# Altium footprint library WR-TBL_Rising Cage Clamp_7.62mm.PcbLib: 34 footprints (part 2 of 3)
Each footprint in its own frame and in the unit in brackets; x right, y up, seen from the top. Pads: shape width x height; smd on the part's side, far side on the other; paste and mask are expansions set on the pad; w line width, h text height; cw(c..) or ccw(c..) is an arc to the next point about the centre after c.
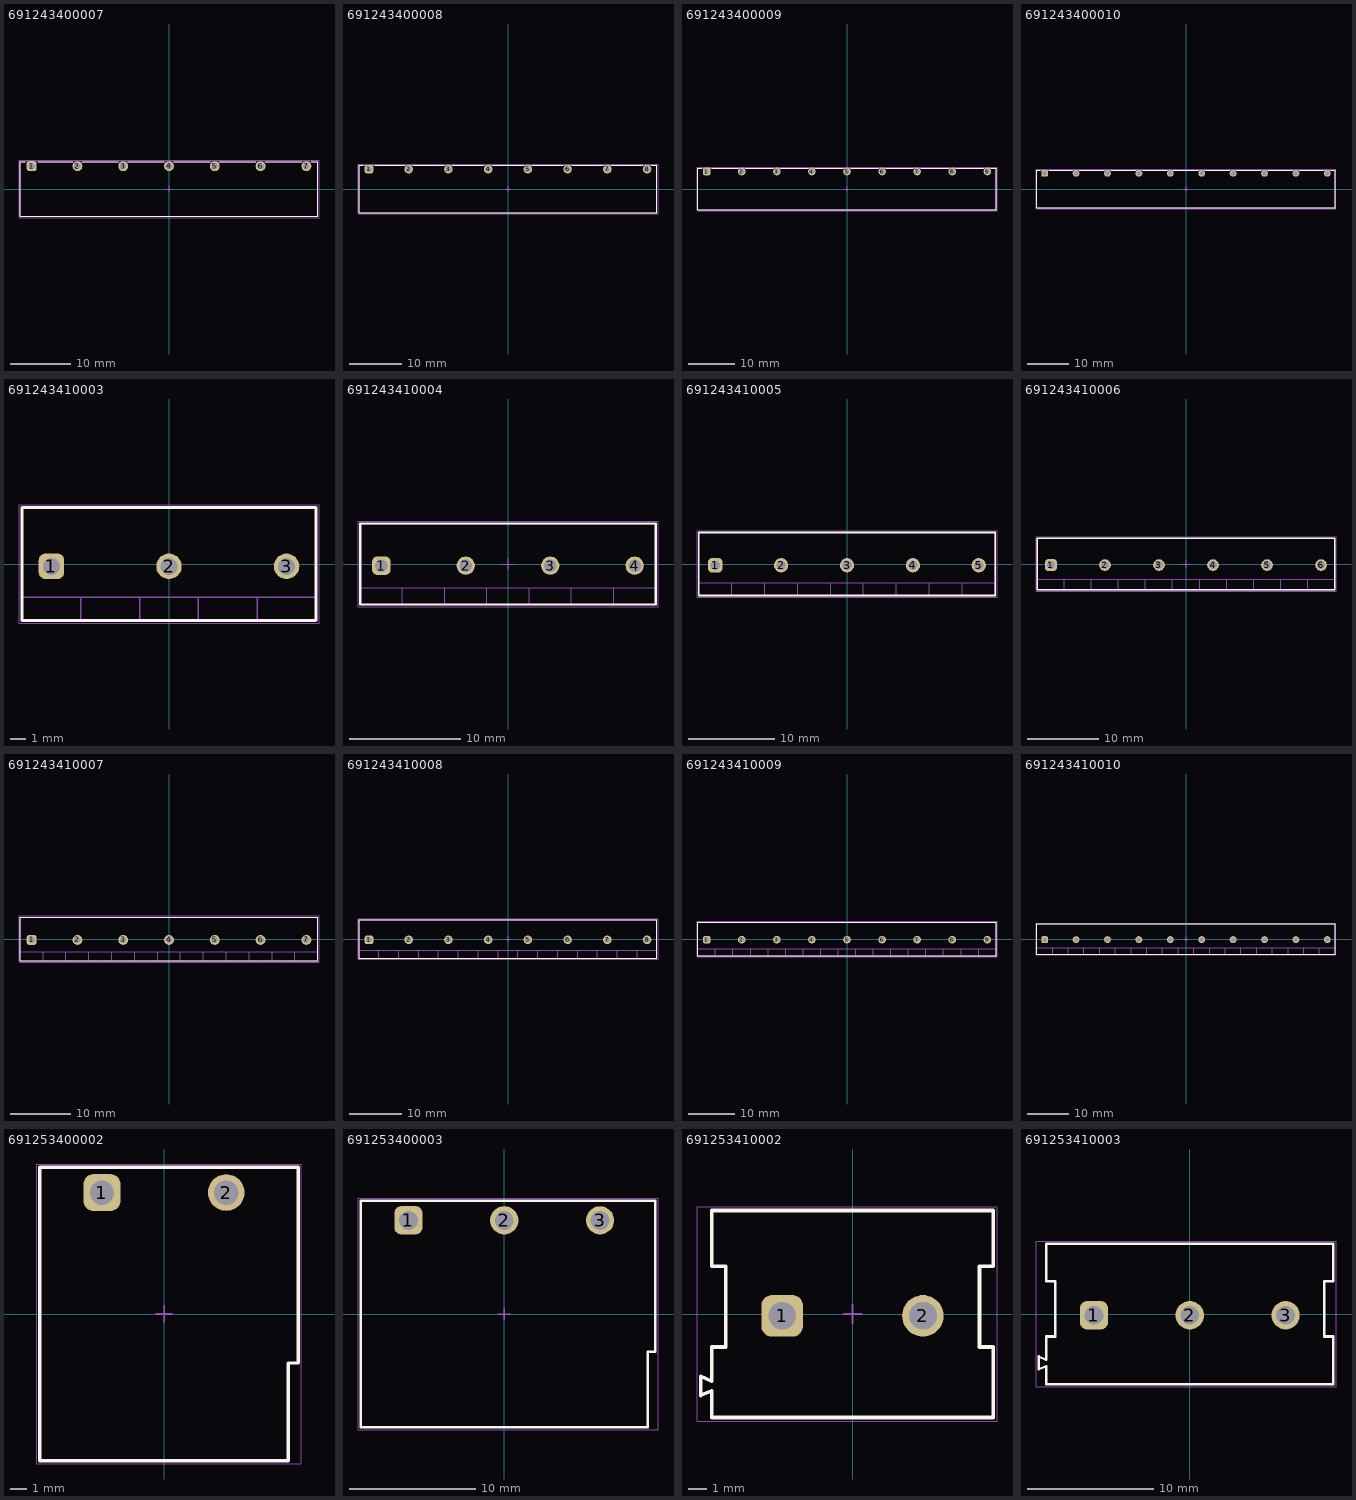
[diagram p1: the footprints below, top view; thin cyan lines are the x and y axes]

## 691243400007 [mm] "Serie 2434 - 7.62 mm _ 7 pins"
height 7.3
pads (7):
  rrect50% 1.65x1.65 hole 1.1: 1(-22.86,3.8)
  round 1.65 hole 1.1: 2(-15.24,3.8) 3(-7.62,3.8) 4(0,3.8) 5(7.62,3.8) 6(15.24,3.8) 7(22.86,3.8)
Top Overlay:
  lines w0.2: -23.965,4.55 -24.765,4.55 -24.765,-4.55 24.765,-4.55 24.765,4.55 23.655,4.55 ; -21.755,4.55 -16.015,4.55 ; -14.465,4.55 -8.415,4.55 ; -6.845,4.55 -0.795,4.55 ; 0.775,4.55 6.825,4.55 ; 8.395,4.55 14.445,4.55 ; 16.015,4.55 22.065,4.55
Top Assembly:
  lines w0.1: -24.765,-4.55 -24.765,4.55 24.765,4.55 24.765,-4.55 -24.765,-4.55
Top Designator:
  text ".Designator" at -3.647,-0.357 h1
Top 3D Body:
  lines w0.1: -24.765,-4.55 24.765,-4.55 24.765,4.55 -24.765,4.55 -24.765,-4.55
Top Courtyard:
  lines w0.05: -24.965,-4.75 24.965,-4.75 24.965,4.75 -24.965,4.75 -24.965,-4.75
Top Component Center:
  lines w0.1: -0.5,0 0.5,0 ; 0,-0.5 0,0.5
3D body "691243400007.stp": height 7.35, standoff -3.45, extent -24.765,-4.55 24.765,4.55

## 691243400008 [mm] "Serie 2434 - 7.62 mm _ 8 pins"
height 7.3
pads (8):
  rrect50% 1.65x1.65 hole 1.1: 1(-26.67,3.8)
  round 1.65 hole 1.1: 2(-19.05,3.8) 3(-11.43,3.8) 4(-3.81,3.8) 5(3.81,3.8) 6(11.43,3.8) 7(19.05,3.8) 8(26.67,3.8)
Top Overlay:
  lines w0.2: -27.775,4.55 -28.575,4.55 -28.575,-4.55 28.575,-4.55 28.575,4.55 27.465,4.55 ; -25.565,4.55 -19.825,4.55 ; -18.275,4.55 -12.225,4.55 ; -10.655,4.55 -4.605,4.55 ; -3.035,4.55 3.015,4.55 ; 4.585,4.55 10.635,4.55 ; 12.205,4.55 18.255,4.55 ; 19.825,4.55 25.875,4.55
Top Assembly:
  lines w0.1: -28.575,-4.55 28.575,-4.55 28.575,4.55 -28.575,4.55 -28.575,-4.55
Top Designator:
  text ".Designator" at -3.647,-0.357 h1
Top 3D Body:
  lines w0.1: -28.575,-4.55 -28.575,4.55 28.575,4.55 28.575,-4.55 -28.575,-4.55
Top Courtyard:
  lines w0.05: -28.775,-4.75 -28.775,4.75 28.775,4.75 28.775,-4.75 -28.775,-4.75
Top Component Center:
  lines w0.1: -0.5,0 0.5,0 ; 0,-0.5 0,0.5
3D body "691243400008.stp": height 7.35, standoff -3.45, extent -28.575,-4.55 28.575,4.55

## 691243400009 [mm] "Serie 2434 - 7.62 mm _ 9 pins"
height 7.3
pads (9):
  rrect50% 1.65x1.65 hole 1.1: 1(-30.48,3.8)
  round 1.65 hole 1.1: 2(-22.86,3.8) 3(-15.24,3.8) 4(-7.62,3.8) 5(0,3.8) 6(7.62,3.8) 7(15.24,3.8) 8(22.86,3.8) 9(30.48,3.8)
Top Overlay:
  lines w0.2: -31.585,4.55 -32.385,4.55 -32.385,-4.55 32.385,-4.55 32.385,4.55 31.275,4.55 ; -29.375,4.55 -23.635,4.55 ; -22.085,4.55 -16.035,4.55 ; -14.465,4.55 -8.415,4.55 ; -6.845,4.55 -0.795,4.55 ; 0.775,4.55 6.825,4.55 ; 8.395,4.55 14.445,4.55 ; 16.015,4.55 22.065,4.55 ; 23.635,4.55 29.685,4.55
Top Assembly:
  lines w0.1: -32.385,-4.55 32.385,-4.55 32.385,4.55 -32.385,4.55 -32.385,-4.55
Top Designator:
  text ".Designator" at -3.647,-0.357 h1
Top 3D Body:
  lines w0.1: -32.385,-4.55 -32.385,4.55 32.385,4.55 32.385,-4.55 -32.385,-4.55
Top Courtyard:
  lines w0.05: -32.585,-4.75 -32.585,4.75 32.585,4.75 32.585,-4.75 -32.585,-4.75
Top Component Center:
  lines w0.1: -0.5,0 0.5,0 ; 0,-0.5 0,0.5
3D body "691243400009.stp": height 7.35, standoff -3.45, extent -32.385,-4.55 32.385,4.55

## 691243400010 [mm] "Serie 2434 - 7.62 mm _ 10 pins"
height 7.3
pads (10):
  rrect50% 1.65x1.65 hole 1.1: 1(-34.29,3.8)
  round 1.65 hole 1.1: 2(-26.67,3.8) 3(-19.05,3.8) 4(-11.43,3.8) 5(-3.81,3.8) 6(3.81,3.8) 7(11.43,3.8) 8(19.05,3.8) 9(26.67,3.8) 10(34.29,3.8)
Top Overlay:
  lines w0.2: -35.395,4.55 -36.195,4.55 -36.195,-4.55 36.195,-4.55 36.195,4.55 35.085,4.55 ; -33.185,4.55 -27.445,4.55 ; -25.895,4.55 -19.845,4.55 ; -18.275,4.55 -12.225,4.55 ; -10.655,4.55 -4.605,4.55 ; -3.035,4.55 3.015,4.55 ; 4.585,4.55 10.635,4.55 ; 12.205,4.55 18.255,4.55 ; 19.825,4.55 25.875,4.55 ; 27.445,4.55 33.495,4.55
Top Assembly:
  lines w0.1: -36.195,-4.55 -36.195,4.55 36.195,4.55 36.195,-4.55 -36.195,-4.55
Top Designator:
  text ".Designator" at -3.647,-0.357 h1
Top 3D Body:
  lines w0.1: -36.195,-4.55 36.195,-4.55 36.195,4.55 -36.195,4.55 -36.195,-4.55
Top Courtyard:
  lines w0.05: -36.395,-4.75 36.395,-4.75 36.395,4.75 -36.395,4.75 -36.395,-4.75
Top Component Center:
  lines w0.1: -0.5,0 0.5,0 ; 0,-0.5 0,0.5
3D body "691243400010.stp": height 7.35, standoff -3.45, extent -36.195,-4.55 36.195,4.55

## 691243410003 [mm] "Serie 2434 - 7.62 mm _ 3 pins"
height 9.1
pads (3):
  rrect50% 1.65x1.65 hole 1.1: 1(-7.62,-0.15)
  round 1.65 hole 1.1: 2(0,-0.15) 3(7.62,-0.15)
Top Overlay:
  lines w0.2: -9.525,-3.65 9.525,-3.65 9.525,3.65 -9.525,3.65 -9.525,-3.65
Top Assembly:
  lines w0.1: -9.525,-2.15 9.525,-2.15 ; -5.715,-3.65 -5.715,-2.15 ; -1.905,-3.65 -1.905,-2.15 ; 1.905,-3.65 1.905,-2.15 ; 5.715,-3.65 5.715,-2.15 ; -9.525,-3.65 -9.525,3.65 9.525,3.65 9.525,-3.65 -9.525,-3.65
Top Designator:
  text ".Designator" at -3.647,-0.357 h1
Top 3D Body:
  lines w0.1: -9.525,-2.15 9.525,-2.15 ; -5.715,-3.65 -5.715,-2.15 ; -1.905,-3.65 -1.905,-2.15 ; 1.905,-3.65 1.905,-2.15 ; 5.715,-3.65 5.715,-2.15 ; -9.525,-3.65 9.525,-3.65 9.525,3.65 -9.525,3.65 -9.525,-3.65
Top Courtyard:
  lines w0.05: -9.725,-3.85 9.725,-3.85 9.725,3.85 -9.725,3.85 -9.725,-3.85
Top Component Center:
  lines w0.1: -0.5,0 0.5,0 ; 0,-0.5 0,0.5
3D body "691243410003.stp": height 9.15, standoff -3.45, extent -9.525,-3.65 9.525,3.65

## 691243410004 [mm] "Serie 2434 - 7.62 mm _ 4 pins"
height 9.1
pads (4):
  rrect50% 1.65x1.65 hole 1.1: 1(-11.43,-0.15)
  round 1.65 hole 1.1: 2(-3.81,-0.15) 3(3.81,-0.15) 4(11.43,-0.15)
Top Overlay:
  lines w0.2: -13.335,-3.65 -13.335,3.65 13.335,3.65 13.335,-3.65 -13.335,-3.65
Top Assembly:
  lines w0.1: -13.335,-2.15 13.335,-2.15 ; -9.525,-3.65 -9.525,-2.15 ; -5.715,-3.65 -5.715,-2.15 ; -1.905,-3.65 -1.905,-2.15 ; 1.905,-3.65 1.905,-2.15 ; 5.715,-3.65 5.715,-2.15 ; 9.525,-3.65 9.525,-2.15 ; -13.335,-3.65 13.335,-3.65 13.335,3.65 -13.335,3.65 -13.335,-3.65
Top Designator:
  text ".Designator" at -3.647,-0.357 h1
Top 3D Body:
  lines w0.1: -13.335,-2.15 13.335,-2.15 ; -9.525,-3.65 -9.525,-2.15 ; -5.715,-3.65 -5.715,-2.15 ; -1.905,-3.65 -1.905,-2.15 ; 1.905,-3.65 1.905,-2.15 ; 5.715,-3.65 5.715,-2.15 ; 9.525,-3.65 9.525,-2.15 ; -13.335,-3.65 -13.335,3.65 13.335,3.65 13.335,-3.65 -13.335,-3.65
Top Courtyard:
  lines w0.05: -13.535,-3.85 -13.535,3.85 13.535,3.85 13.535,-3.85 -13.535,-3.85
Top Component Center:
  lines w0.1: -0.5,0 0.5,0 ; 0,-0.5 0,0.5
3D body "691243410004.stp": height 9.15, standoff -3.45, extent -13.335,-3.65 13.335,3.65

## 691243410005 [mm] "Serie 2434 - 7.62 mm _ 5 pins"
height 9.1
pads (5):
  rrect50% 1.65x1.65 hole 1.1: 1(-15.24,-0.15)
  round 1.65 hole 1.1: 2(-7.62,-0.15) 3(0,-0.15) 4(7.62,-0.15) 5(15.24,-0.15)
Top Overlay:
  lines w0.2: -17.145,-3.65 -17.145,3.65 17.145,3.65 17.145,-3.65 -17.145,-3.65
Top Assembly:
  lines w0.1: -17.145,-2.15 17.145,-2.15 ; -13.335,-3.65 -13.335,-2.15 ; -9.525,-3.65 -9.525,-2.15 ; -5.715,-3.65 -5.715,-2.15 ; -1.905,-3.65 -1.905,-2.15 ; 1.905,-3.65 1.905,-2.15 ; 5.715,-3.65 5.715,-2.15 ; 9.525,-3.65 9.525,-2.15 ; 13.335,-3.65 13.335,-2.15 ; -17.145,-3.65 17.145,-3.65 17.145,3.65 -17.145,3.65 -17.145,-3.65
Top Designator:
  text ".Designator" at -3.647,-0.357 h1
Top 3D Body:
  lines w0.1: -17.145,-2.15 17.145,-2.15 ; -13.335,-3.65 -13.335,-2.15 ; -9.525,-3.65 -9.525,-2.15 ; -5.715,-3.65 -5.715,-2.15 ; -1.905,-3.65 -1.905,-2.15 ; 1.905,-3.65 1.905,-2.15 ; 5.715,-3.65 5.715,-2.15 ; 9.525,-3.65 9.525,-2.15 ; 13.335,-3.65 13.335,-2.15 ; -17.145,-3.65 -17.145,3.65 17.145,3.65 17.145,-3.65 -17.145,-3.65
Top Courtyard:
  lines w0.05: -17.345,-3.85 -17.345,3.85 17.345,3.85 17.345,-3.85 -17.345,-3.85
Top Component Center:
  lines w0.1: -0.5,0 0.5,0 ; 0,-0.5 0,0.5
3D body "691243410005.stp": height 9.15, standoff -3.45, extent -17.145,-3.65 17.145,3.65

## 691243410006 [mm] "Serie 2434 - 7.62 mm _ 6 pins"
height 9.1
pads (6):
  rrect50% 1.65x1.65 hole 1.1: 1(-19.05,-0.15)
  round 1.65 hole 1.1: 2(-11.43,-0.15) 3(-3.81,-0.15) 4(3.81,-0.15) 5(11.43,-0.15) 6(19.05,-0.15)
Top Overlay:
  lines w0.2: -20.955,-3.65 -20.955,3.65 20.955,3.65 20.955,-3.65 -20.955,-3.65
Top Assembly:
  lines w0.1: -20.955,-2.15 20.955,-2.15 ; -17.145,-3.65 -17.145,-2.15 ; -13.335,-3.65 -13.335,-2.15 ; -9.525,-3.65 -9.525,-2.15 ; -5.715,-3.65 -5.715,-2.15 ; -1.905,-3.65 -1.905,-2.15 ; 1.905,-3.65 1.905,-2.15 ; 5.715,-3.65 5.715,-2.15 ; 9.525,-3.65 9.525,-2.15 ; 13.335,-3.65 13.335,-2.15 ; 17.145,-3.65 17.145,-2.15 ; -20.955,-3.65 20.955,-3.65 20.955,3.65 -20.955,3.65 -20.955,-3.65
Top Designator:
  text ".Designator" at -3.647,-0.357 h1
Top 3D Body:
  lines w0.1: -20.955,-2.15 20.955,-2.15 ; -17.145,-3.65 -17.145,-2.15 ; -13.335,-3.65 -13.335,-2.15 ; -9.525,-3.65 -9.525,-2.15 ; -5.715,-3.65 -5.715,-2.15 ; -1.905,-3.65 -1.905,-2.15 ; 1.905,-3.65 1.905,-2.15 ; 5.715,-3.65 5.715,-2.15 ; 9.525,-3.65 9.525,-2.15 ; 13.335,-3.65 13.335,-2.15 ; 17.145,-3.65 17.145,-2.15 ; -20.955,-3.65 -20.955,3.65 20.955,3.65 20.955,-3.65 -20.955,-3.65
Top Courtyard:
  lines w0.05: -21.155,-3.85 -21.155,3.85 21.155,3.85 21.155,-3.85 -21.155,-3.85
Top Component Center:
  lines w0.1: -0.5,0 0.5,0 ; 0,-0.5 0,0.5
3D body "691243410006.stp": height 9.15, standoff -3.45, extent -20.955,-3.65 20.955,3.65

## 691243410007 [mm] "Serie 2434 - 7.62 mm _ 7 pins"
height 9.1
pads (7):
  rrect50% 1.65x1.65 hole 1.1: 1(-22.86,-0.15)
  round 1.65 hole 1.1: 2(-15.24,-0.15) 3(-7.62,-0.15) 4(0,-0.15) 5(7.62,-0.15) 6(15.24,-0.15) 7(22.86,-0.15)
Top Overlay:
  lines w0.2: -24.765,-3.65 24.765,-3.65 24.765,3.65 -24.765,3.65 -24.765,-3.65
Top Assembly:
  lines w0.1: -24.765,-2.15 24.765,-2.15 ; -20.955,-3.65 -20.955,-2.15 ; -17.145,-3.65 -17.145,-2.15 ; -13.335,-3.65 -13.335,-2.15 ; -9.525,-3.65 -9.525,-2.15 ; -5.715,-3.65 -5.715,-2.15 ; -1.905,-3.65 -1.905,-2.15 ; 1.905,-3.65 1.905,-2.15 ; 5.715,-3.65 5.715,-2.15 ; 9.525,-3.65 9.525,-2.15 ; 13.335,-3.65 13.335,-2.15 ; 17.145,-3.65 17.145,-2.15 ; 20.955,-3.65 20.955,-2.15 ; -24.765,-3.65 -24.765,3.65 24.765,3.65 24.765,-3.65 -24.765,-3.65
Top Designator:
  text ".Designator" at -3.647,-0.357 h1
Top 3D Body:
  lines w0.1: -24.765,-2.15 24.765,-2.15 ; -20.955,-3.65 -20.955,-2.15 ; -17.145,-3.65 -17.145,-2.15 ; -13.335,-3.65 -13.335,-2.15 ; -9.525,-3.65 -9.525,-2.15 ; -5.715,-3.65 -5.715,-2.15 ; -1.905,-3.65 -1.905,-2.15 ; 1.905,-3.65 1.905,-2.15 ; 5.715,-3.65 5.715,-2.15 ; 9.525,-3.65 9.525,-2.15 ; 13.335,-3.65 13.335,-2.15 ; 17.145,-3.65 17.145,-2.15 ; 20.955,-3.65 20.955,-2.15 ; -24.765,-3.65 24.765,-3.65 24.765,3.65 -24.765,3.65 -24.765,-3.65
Top Courtyard:
  lines w0.05: -24.965,-3.85 24.965,-3.85 24.965,3.85 -24.965,3.85 -24.965,-3.85
Top Component Center:
  lines w0.1: -0.5,0 0.5,0 ; 0,-0.5 0,0.5
3D body "691243410007.stp": height 9.15, standoff -3.45, extent -24.765,-3.65 24.765,3.65

## 691243410008 [mm] "Serie 2434 - 7.62 mm _ 8 pins"
height 9.1
pads (8):
  rrect50% 1.65x1.65 hole 1.1: 1(-26.67,-0.15)
  round 1.65 hole 1.1: 2(-19.05,-0.15) 3(-11.43,-0.15) 4(-3.81,-0.15) 5(3.81,-0.15) 6(11.43,-0.15) 7(19.05,-0.15) 8(26.67,-0.15)
Top Overlay:
  lines w0.2: -28.575,-3.65 -28.575,3.65 28.575,3.65 28.575,-3.65 -28.575,-3.65
Top Assembly:
  lines w0.1: -28.575,-2.15 28.575,-2.15 ; -24.765,-3.65 -24.765,-2.15 ; -20.955,-3.65 -20.955,-2.15 ; -17.145,-3.65 -17.145,-2.15 ; -13.335,-3.65 -13.335,-2.15 ; -9.525,-3.65 -9.525,-2.15 ; -5.715,-3.65 -5.715,-2.15 ; -1.905,-3.65 -1.905,-2.15 ; 1.905,-3.65 1.905,-2.15 ; 5.715,-3.65 5.715,-2.15 ; 9.525,-3.65 9.525,-2.15 ; 13.335,-3.65 13.335,-2.15 ; 17.145,-3.65 17.145,-2.15 ; 20.955,-3.65 20.955,-2.15 ; 24.765,-3.65 24.765,-2.15 ; -28.575,-3.65 28.575,-3.65 28.575,3.65 -28.575,3.65 -28.575,-3.65
Top Designator:
  text ".Designator" at -3.647,-0.357 h1
Top 3D Body:
  lines w0.1: -28.575,-2.15 28.575,-2.15 ; -24.765,-3.65 -24.765,-2.15 ; -20.955,-3.65 -20.955,-2.15 ; -17.145,-3.65 -17.145,-2.15 ; -13.335,-3.65 -13.335,-2.15 ; -9.525,-3.65 -9.525,-2.15 ; -5.715,-3.65 -5.715,-2.15 ; -1.905,-3.65 -1.905,-2.15 ; 1.905,-3.65 1.905,-2.15 ; 5.715,-3.65 5.715,-2.15 ; 9.525,-3.65 9.525,-2.15 ; 13.335,-3.65 13.335,-2.15 ; 17.145,-3.65 17.145,-2.15 ; 20.955,-3.65 20.955,-2.15 ; 24.765,-3.65 24.765,-2.15 ; -28.575,-3.65 -28.575,3.65 28.575,3.65 28.575,-3.65 -28.575,-3.65
Top Courtyard:
  lines w0.05: -28.775,-3.85 -28.775,3.85 28.775,3.85 28.775,-3.85 -28.775,-3.85
Top Component Center:
  lines w0.1: -0.5,0 0.5,0 ; 0,-0.5 0,0.5
3D body "691243410008.stp": height 9.15, standoff -3.45, extent -28.575,-3.65 28.575,3.65

## 691243410009 [mm] "Serie 2434 - 7.62 mm _ 9 pins"
height 9.1
pads (9):
  rrect50% 1.65x1.65 hole 1.1: 1(-30.48,-0.15)
  round 1.65 hole 1.1: 2(-22.86,-0.15) 3(-15.24,-0.15) 4(-7.62,-0.15) 5(0,-0.15) 6(7.62,-0.15) 7(15.24,-0.15) 8(22.86,-0.15) 9(30.48,-0.15)
Top Overlay:
  lines w0.2: -32.385,-3.65 32.385,-3.65 32.385,3.65 -32.385,3.65 -32.385,-3.65
Top Assembly:
  lines w0.1: -32.385,-2.15 32.385,-2.15 ; -28.575,-3.65 -28.575,-2.15 ; -24.765,-3.65 -24.765,-2.15 ; -20.955,-3.65 -20.955,-2.15 ; -17.145,-3.65 -17.145,-2.15 ; -13.335,-3.65 -13.335,-2.15 ; -9.525,-3.65 -9.525,-2.15 ; -5.715,-3.65 -5.715,-2.15 ; -1.905,-3.65 -1.905,-2.15 ; 1.905,-3.65 1.905,-2.15 ; 5.715,-3.65 5.715,-2.15 ; 9.525,-3.65 9.525,-2.15 ; 13.335,-3.65 13.335,-2.15 ; 17.145,-3.65 17.145,-2.15 ; 20.955,-3.65 20.955,-2.15 ; 24.765,-3.65 24.765,-2.15 ; 28.575,-3.65 28.575,-2.15 ; -32.385,-3.65 -32.385,3.65 32.385,3.65 32.385,-3.65 -32.385,-3.65
Top Designator:
  text ".Designator" at -3.647,-0.357 h1
Top 3D Body:
  lines w0.1: -32.385,-2.15 32.385,-2.15 ; -28.575,-3.65 -28.575,-2.15 ; -24.765,-3.65 -24.765,-2.15 ; -20.955,-3.65 -20.955,-2.15 ; -17.145,-3.65 -17.145,-2.15 ; -13.335,-3.65 -13.335,-2.15 ; -9.525,-3.65 -9.525,-2.15 ; -5.715,-3.65 -5.715,-2.15 ; -1.905,-3.65 -1.905,-2.15 ; 1.905,-3.65 1.905,-2.15 ; 5.715,-3.65 5.715,-2.15 ; 9.525,-3.65 9.525,-2.15 ; 13.335,-3.65 13.335,-2.15 ; 17.145,-3.65 17.145,-2.15 ; 20.955,-3.65 20.955,-2.15 ; 24.765,-3.65 24.765,-2.15 ; 28.575,-3.65 28.575,-2.15 ; -32.385,-3.65 32.385,-3.65 32.385,3.65 -32.385,3.65 -32.385,-3.65
Top Courtyard:
  lines w0.05: -32.585,-3.85 32.585,-3.85 32.585,3.85 -32.585,3.85 -32.585,-3.85
Top Component Center:
  lines w0.1: -0.5,0 0.5,0 ; 0,-0.5 0,0.5
3D body "691243410009.stp": height 9.15, standoff -3.45, extent -32.385,-3.65 32.385,3.65

## 691243410010 [mm] "Serie 2434 - 7.62 mm _ 10 pins"
height 9.1
pads (10):
  rrect50% 1.65x1.65 hole 1.1: 1(-34.29,-0.15)
  round 1.65 hole 1.1: 2(-26.67,-0.15) 3(-19.05,-0.15) 4(-11.43,-0.15) 5(-3.81,-0.15) 6(3.81,-0.15) 7(11.43,-0.15) 8(19.05,-0.15) 9(26.67,-0.15) 10(34.29,-0.15)
Top Overlay:
  lines w0.2: -36.195,-3.65 -36.195,3.65 36.195,3.65 36.195,-3.65 -36.195,-3.65
Top Assembly:
  lines w0.1: -36.195,-2.15 36.195,-2.15 ; -32.385,-3.65 -32.385,-2.15 ; -28.575,-3.65 -28.575,-2.15 ; -24.765,-3.65 -24.765,-2.15 ; -20.955,-3.65 -20.955,-2.15 ; -17.145,-3.65 -17.145,-2.15 ; -13.335,-3.65 -13.335,-2.15 ; -9.525,-3.65 -9.525,-2.15 ; -5.715,-3.65 -5.715,-2.15 ; -1.905,-3.65 -1.905,-2.15 ; 1.905,-3.65 1.905,-2.15 ; 5.715,-3.65 5.715,-2.15 ; 9.525,-3.65 9.525,-2.15 ; 13.335,-3.65 13.335,-2.15 ; 17.145,-3.65 17.145,-2.15 ; 20.955,-3.65 20.955,-2.15 ; 24.765,-3.65 24.765,-2.15 ; 28.575,-3.65 28.575,-2.15 ; 32.385,-3.65 32.385,-2.15 ; -36.195,-3.65 36.195,-3.65 36.195,3.65 -36.195,3.65 -36.195,-3.65
Top Designator:
  text ".Designator" at -3.647,-0.357 h1
Top 3D Body:
  lines w0.1: -36.195,-2.15 36.195,-2.15 ; -32.385,-3.65 -32.385,-2.15 ; -28.575,-3.65 -28.575,-2.15 ; -24.765,-3.65 -24.765,-2.15 ; -20.955,-3.65 -20.955,-2.15 ; -17.145,-3.65 -17.145,-2.15 ; -13.335,-3.65 -13.335,-2.15 ; -9.525,-3.65 -9.525,-2.15 ; -5.715,-3.65 -5.715,-2.15 ; -1.905,-3.65 -1.905,-2.15 ; 1.905,-3.65 1.905,-2.15 ; 5.715,-3.65 5.715,-2.15 ; 9.525,-3.65 9.525,-2.15 ; 13.335,-3.65 13.335,-2.15 ; 17.145,-3.65 17.145,-2.15 ; 20.955,-3.65 20.955,-2.15 ; 24.765,-3.65 24.765,-2.15 ; 28.575,-3.65 28.575,-2.15 ; 32.385,-3.65 32.385,-2.15 ; -36.195,-3.65 -36.195,3.65 36.195,3.65 36.195,-3.65 -36.195,-3.65
Top Courtyard:
  lines w0.05: -36.395,-3.85 -36.395,3.85 36.395,3.85 36.395,-3.85 -36.395,-3.85
Top Component Center:
  lines w0.1: -0.5,0 0.5,0 ; 0,-0.5 0,0.5
3D body "691243410010.stp": height 9.15, standoff -3.45, extent -36.195,-3.65 36.195,3.65

## 691253400002 [mm] "Serie 2534 - 7.62 mm _ 2 pins"
height 11.2
pads (2):
  rrect50% 2.25x2.25 hole 1.5: 1(-3.81,7.45)
  round 2.25 hole 1.5: 2(3.81,7.45)
Top Overlay:
  lines w0.2: -7.62,-9 7.62,-9 7.62,-3 8.22,-3 8.22,9 -7.62,9 -7.62,-9
Top Assembly:
  lines w0.1: -7.62,-9 -7.62,9 8.22,9 8.22,-3 7.62,-3 7.62,-9 -7.62,-9
Top Designator:
  text ".Designator" at -3.647,-0.357 h1
Top 3D Body:
  lines w0.1: -7.62,-9 7.62,-9 7.62,-3 8.22,-3 8.22,9 -7.62,9 -7.62,-9
Top Courtyard:
  lines w0.05: -7.82,-9.2 8.42,-9.2 8.42,9.2 -7.82,9.2 -7.82,-9.2
Top Component Center:
  lines w0.1: -0.5,0 0.5,0 ; 0,-0.5 0,0.5
3D body "691253400002.stp": height 11.3, standoff -3.9, extent -7.62,-9 8.22,9

## 691253400003 [mm] "Serie 2534 - 7.62 mm _ 3 pins"
height 11.2
pads (3):
  rrect50% 2.25x2.25 hole 1.5: 1(-7.62,7.45)
  round 2.25 hole 1.5: 2(0,7.45) 3(7.62,7.45)
Top Overlay:
  lines w0.2: -11.43,-9 11.43,-9 11.43,-3 12.03,-3 12.03,9 -11.43,9 -11.43,-9
Top Assembly:
  lines w0.1: -11.43,-9 -11.43,9 12.03,9 12.03,-3 11.43,-3 11.43,-9 -11.43,-9
Top Designator:
  text ".Designator" at -3.647,-0.357 h1
Top 3D Body:
  lines w0.1: -11.43,-9 11.43,-9 11.43,-3 12.03,-3 12.03,9 -11.43,9 -11.43,-9
Top Courtyard:
  lines w0.05: -11.63,-9.2 12.23,-9.2 12.23,9.2 -11.63,9.2 -11.63,-9.2
Top Component Center:
  lines w0.1: -0.5,0 0.5,0 ; 0,-0.5 0,0.5
3D body "691253400003.stp": height 11.3, standoff -3.9, extent -11.43,-9 12.03,9

## 691253410002 [mm] "Serie 2534 - 7.62 mm _ 2 pins"
height 18
pads (2):
  rrect50% 2.25x2.25 hole 1.5: 1(-3.81,-0.1)
  round 2.25 hole 1.5: 2(3.81,-0.1)
Top Overlay:
  lines w0.2: -7.62,-5.6 -7.62,-4.15 -8.22,-4.41 -8.22,-3.38 -7.62,-3.64 -7.62,-1.79 -6.87,-1.79 -6.87,2.59 -7.62,2.59 -7.62,5.6 7.62,5.6 7.62,2.59 6.87,2.59 6.87,-1.79 7.62,-1.79 7.62,-5.6 -7.62,-5.6
Top Assembly:
  lines w0.1: -7.62,-5.6 -7.62,-4.15 -8.22,-4.41 -8.22,-3.38 -7.62,-3.64 -7.62,-1.79 -6.87,-1.79 -6.87,2.59 -7.62,2.59 -7.62,5.6 7.62,5.6 7.62,2.59 6.87,2.59 6.87,-1.79 7.62,-1.79 7.62,-5.6 -7.62,-5.6
Top Designator:
  text ".Designator" at -3.647,-0.357 h1
Top 3D Body:
  lines w0.1: -7.62,-5.6 -7.62,-4.15 -8.22,-4.41 -8.22,-3.38 -7.62,-3.64 -7.62,-1.79 -6.87,-1.79 -6.87,2.59 -7.62,2.59 -7.62,5.6 7.62,5.6 7.62,2.59 6.87,2.59 6.87,-1.79 7.62,-1.79 7.62,-5.6 -7.62,-5.6
Top Courtyard:
  lines w0.05: -8.42,-5.8 7.82,-5.8 7.82,5.8 -8.42,5.8 -8.42,-5.8
Top Component Center:
  lines w0.1: -0.5,0 0.5,0 ; 0,-0.5 0,0.5
3D body "691253410002.stp": height 18.1, standoff -3.9, extent -8.22,-5.6 7.62,5.6

## 691253410003 [mm] "Serie 2534 - 7.62 mm _ 3 pins"
height 18
pads (3):
  rrect50% 2.25x2.25 hole 1.5: 1(-7.62,-0.1)
  round 2.25 hole 1.5: 2(0,-0.1) 3(7.62,-0.1)
Top Overlay:
  lines w0.2: -11.43,-5.6 -11.43,-4.15 -12.03,-4.41 -12.03,-3.38 -11.43,-3.64 -11.43,-1.79 -10.68,-1.79 -10.68,2.59 -11.43,2.59 -11.43,5.6 11.43,5.6 11.43,2.59 10.68,2.59 10.68,-1.79 11.43,-1.79 11.43,-5.6 -11.43,-5.6
Top Assembly:
  lines w0.1: -11.43,-5.6 -11.43,-4.15 -12.03,-4.41 -12.03,-3.38 -11.43,-3.64 -11.43,-1.79 -10.68,-1.79 -10.68,2.59 -11.43,2.59 -11.43,5.6 11.43,5.6 11.43,2.59 10.68,2.59 10.68,-1.79 11.43,-1.79 11.43,-5.6 -11.43,-5.6
Top Designator:
  text ".Designator" at -3.647,-0.357 h1
Top 3D Body:
  lines w0.1: -11.43,-5.6 -11.43,-4.15 -12.03,-4.41 -12.03,-3.38 -11.43,-3.64 -11.43,-1.79 -10.68,-1.79 -10.68,2.59 -11.43,2.59 -11.43,5.6 11.43,5.6 11.43,2.59 10.68,2.59 10.68,-1.79 11.43,-1.79 11.43,-5.6 -11.43,-5.6
Top Courtyard:
  lines w0.05: -12.23,-5.8 -12.23,5.8 11.63,5.8 11.63,-5.8 -12.23,-5.8
Top Component Center:
  lines w0.1: -0.5,0 0.5,0 ; 0,-0.5 0,0.5
3D body "691253410003.stp": height 18.1, standoff -3.9, extent -12.03,-5.6 11.43,5.6